# Altium schematic symbol library Schlib1.SchLib: 30 symbols
Pins are listed as number, name and electrical type; pins without a type are passive.

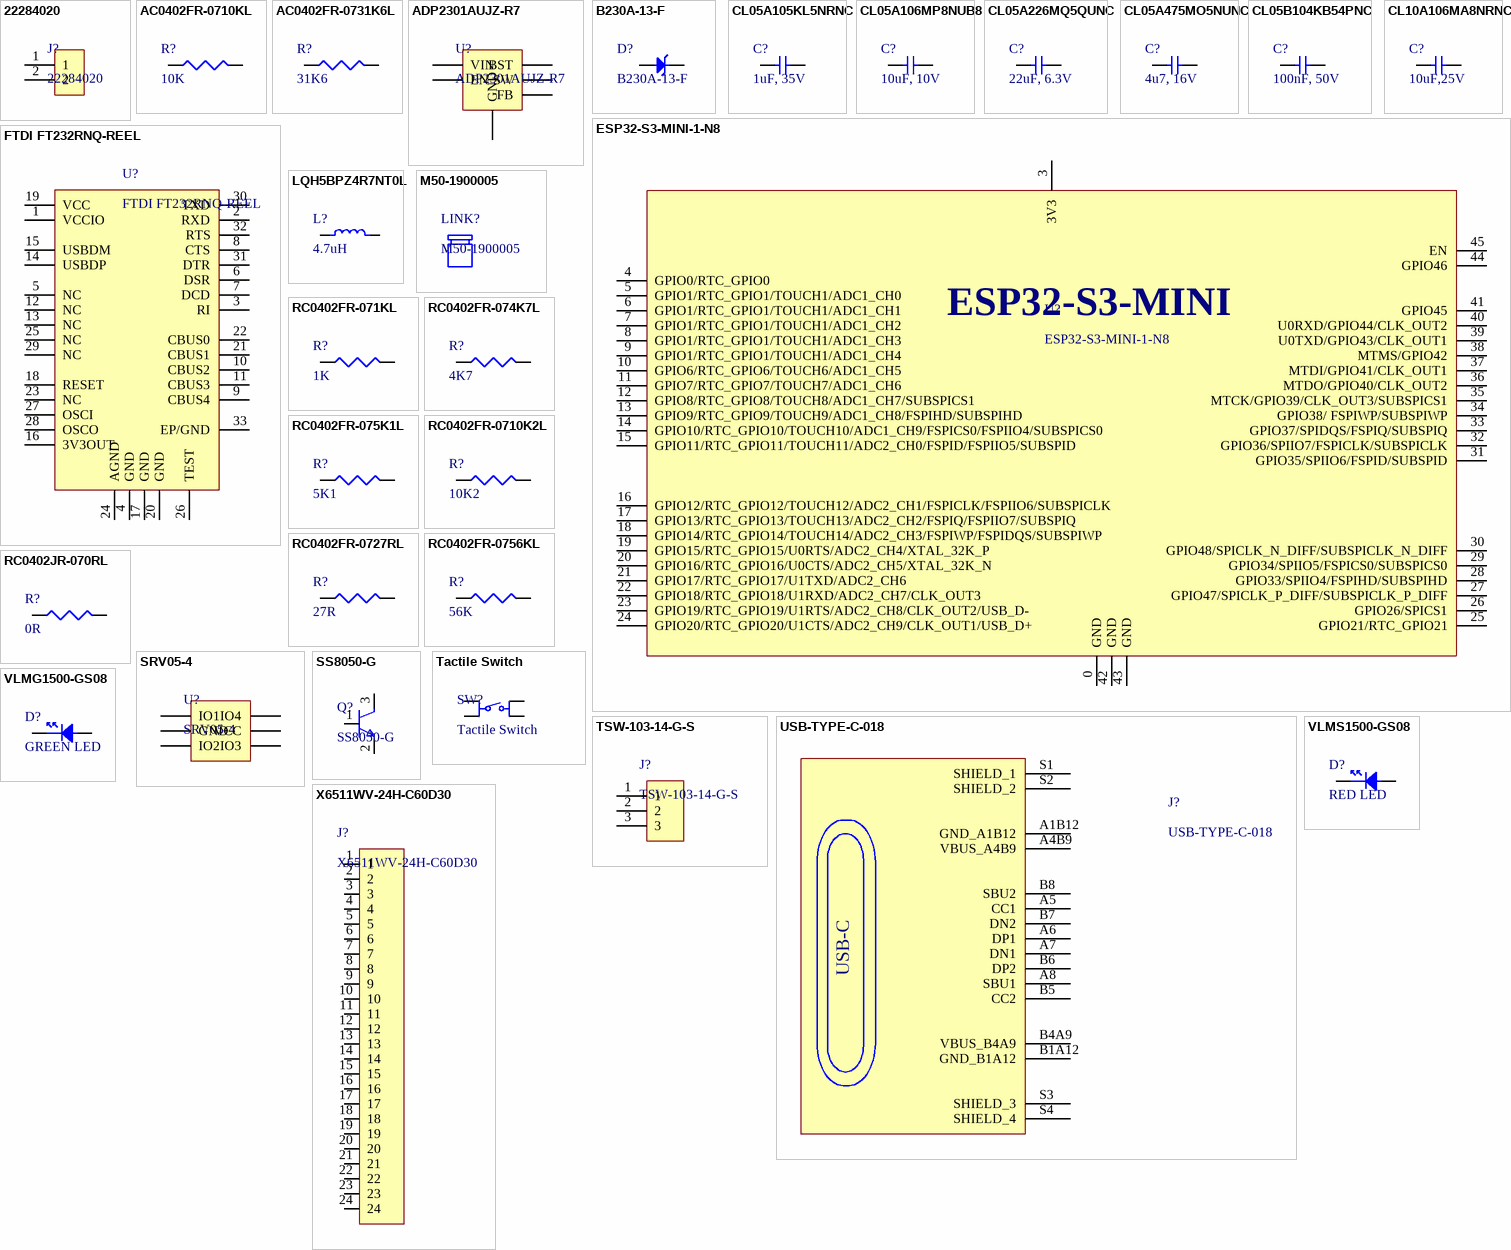
[diagram p0: symbols 22284020 to X6511WV-24H-C60D30]

## 22284020
designator J?
Direct Insert Policy 2P 2.54mm Single Row Black Brass 1x2P Plugin,P=2.54mm Pin Headers ROHS; Manufacture Name: MOLEX; Manufacture Part Number: 22284020; Supplier: LCSC; Supplier Part Number: C234182
footprint HDR_1x2
pins: 1, 2

## AC0402FR-0710KL
designator R?, comment 10K
62.5mW Thick Film Resistors 50V ±100ppm/℃ ±1% 10kΩ 0402 Chip Resistor - Surface Mount ROHS; Manufacturer: Yageo; Manufacturer Part Number: AC0402FR-0710KL; Supplier: LCSC; Supplier Part Number: C144807
footprint AC0402 (Resistor)
pins: 1, 2

## AC0402FR-0731K6L
designator R?, comment 31K6
62.5mW Thick Film Resistors 50V ±100ppm/℃ ±1% 31.6kΩ 0402 Chip Resistor - Surface Mount ROHS; Manufacturer: YAGEO; Manufacturer Part Number: AC0402FR-0731K6L; Supplier: LCSC; Supplier Part Number: C226989
footprint AC0402 (Resistor)
pins: 1, 2

## ADP2301AUJZ-R7
designator U?
Step-down type Adjustable 800mV~17V 1.2A 3V~20V TSOT-6 DC-DC Converters ROHS; Manufacturer: Analog Devices; Manufacturer Part Number: ADP2301AUJZ-R7; Supplier: LCSC; Supplier Part Number: C143872
footprint BUCK
pins: 1 BST, 2 GND, 3 FB, 4 EN, 5 VIN, 6 SW

## B230A-13-F
designator D?
30V 500mV@2A 2A SMA(DO-214AC) Schottky Diodes ROHS; Manufacturer: Diodes Incorporated; Manufacturer Part Number: B230A-13-F; Supplier: LCSC; Supplier Part Number: C12889
footprint Schottky Diode
pins: A, K

## CL05A105KL5NRNC
designator C?, comment 1uF, 35V
35V 1uF X5R ±10% 0402 Multilayer Ceramic Capacitors MLCC - SMD/SMT ROHS; Manufacturer: Samsung; Manufacturer Part Number: CL05A105KL5NRNC; Supplier: LCSC; Supplier Part Number: C307413
footprint Capacitor
pins: 1, 2

## CL05A106MP8NUB8
designator C?, comment 10uF, 10V
10V 10uF X5R ±20% 0402 Multilayer Ceramic Capacitors MLCC - SMD/SMT ROHS; Manufacturer: Samsung; Manufacturer Part Number: CL05A106MP8NUB8; Supplier: LCSC; Supplier Name: C307415
footprint Capacitor
pins: 1, 2

## CL05A226MQ5QUNC
designator C?, comment 22uF, 6.3V
6.3V 22uF X5R ±20% 0402 Multilayer Ceramic Capacitors MLCC - SMD/SMT ROHS; Manufacturer: Samsung Electro-Mechanics; Manufacturer Part Number: CL05A226MQ5QUNC; Supplier: LCSC; Supplier Name: C105226
footprint Capacitor
pins: 1, 2

## CL05A475MO5NUNC
designator C?, comment 4u7, 16V
16V 4.7uF X5R ±20% 0402 Multilayer Ceramic Capacitors MLCC - SMD/SMT ROHS; Manufacturer: Samsung Electro-Mechanics; Manufacturer Part Number: CL05A475MO5NUNC; Supplier: LCSC; Supplier Name: C318563
footprint Capacitor
pins: 1, 2

## CL05B104KB54PNC
designator C?, comment 100nF, 50V
50V 100nF X7R ±10% 0402 Multilayer Ceramic Capacitors MLCC - SMD/SMT ROHS; Manufacturer: Samsung; Manufacturer Part Number: CL05B104KB54PNC; Supplier: LCSC; Supplier Part Number: C307331
footprint Capacitor
pins: 1, 2

## CL10A106MA8NRNC
designator C?, comment 10uF,25V
25V 10uF X5R ±20% 0603 Multilayer Ceramic Capacitors MLCC - SMD/SMT ROHS; Manufacturer: Samsung Electro-Mechanics; Manufacturer Part Number: CL10A106MA8NRNC; Supplier: LCSC; Supplier Part Number: C96446
footprint CL10A106MA8NRNC
pins: 1, 2

## ESP32-S3-MINI-1-N8
designator U?
SMD module, ESP32-S3FN8, 8 MB SPI flash, PCB antenna; Manufacturer: Espressif Systems; Manufacturer Part Number: ESP32-S3-MINI-1-N8; Supplier: LCSC; Supplier Part Number: C2913206
footprint ESP32-S3-MINI-1-N8
pins: 0 GND, 3 3V3, 4 GPIO0/RTC_GPIO0, 5 GPIO1/RTC_GPIO1/TOUCH1/ADC1_CH0, 6 GPIO1/RTC_GPIO1/TOUCH1/ADC1_CH1, 7 GPIO1/RTC_GPIO1/TOUCH1/ADC1_CH2, 8 GPIO1/RTC_GPIO1/TOUCH1/ADC1_CH3, 9 GPIO1/RTC_GPIO1/TOUCH1/ADC1_CH4, 10 GPIO6/RTC_GPIO6/TOUCH6/ADC1_CH5, 11 GPIO7/RTC_GPIO7/TOUCH7/ADC1_CH6, 12 GPIO8/RTC_GPIO8/TOUCH8/ADC1_CH7/SUBSPICS1, 13 GPIO9/RTC_GPIO9/TOUCH9/ADC1_CH8/FSPIHD/SUBSPIHD, 14 GPIO10/RTC_GPIO10/TOUCH10/ADC1_CH9/FSPICS0/FSPIIO4/SUBSPICS0, 15 GPIO11/RTC_GPIO11/TOUCH11/ADC2_CH0/FSPID/FSPIIO5/SUBSPID, 16 GPIO12/RTC_GPIO12/TOUCH12/ADC2_CH1/FSPICLK/FSPIIO6/SUBSPICLK, 17 GPIO13/RTC_GPIO13/TOUCH13/ADC2_CH2/FSPIQ/FSPIIO7/SUBSPIQ, 18 GPIO14/RTC_GPIO14/TOUCH14/ADC2_CH3/FSPIWP/FSPIDQS/SUBSPIWP, 19 GPIO15/RTC_GPIO15/U0RTS/ADC2_CH4/XTAL_32K_P, 20 GPIO16/RTC_GPIO16/U0CTS/ADC2_CH5/XTAL_32K_N, 21 GPIO17/RTC_GPIO17/U1TXD/ADC2_CH6, 22 GPIO18/RTC_GPIO18/U1RXD/ADC2_CH7/CLK_OUT3, 23 GPIO19/RTC_GPIO19/U1RTS/ADC2_CH8/CLK_OUT2/USB_D-, 24 GPIO20/RTC_GPIO20/U1CTS/ADC2_CH9/CLK_OUT1/USB_D+, 25 GPIO21/RTC_GPIO21, 26 GPIO26/SPICS1, 27 GPIO47/SPICLK_P_DIFF/SUBSPICLK_P_DIFF, 28 GPIO33/SPIIO4/FSPIHD/SUBSPIHD, 29 GPIO34/SPIIO5/FSPICS0/SUBSPICS0, 30 GPIO48/SPICLK_N_DIFF/SUBSPICLK_N_DIFF, 31 GPIO35/SPIIO6/FSPID/SUBSPID, 32 GPIO36/SPIIO7/FSPICLK/SUBSPICLK, 33 GPIO37/SPIDQS/FSPIQ/SUBSPIQ, 34 GPIO38/ FSPIWP/SUBSPIWP, 35 MTCK/GPIO39/CLK_OUT3/SUBSPICS1, 36 MTDO/GPIO40/CLK_OUT2, 37 MTDI/GPIO41/CLK_OUT1, 38 MTMS/GPIO42, 39 U0TXD/GPIO43/CLK_OUT1, 40 U0RXD/GPIO44/CLK_OUT2, 41 GPIO45, 42 GND, 43 GND, 44 GPIO46, 45 EN
text: ESP32-S3-MINI

## FTDI FT232RNQ-REEL
designator U?
USB to UART QFN-32(5x5) USB Converters ROHS; Manufacturer: FTDI; Manufacturer Part Number: FT232RNQ-REEL; Supplier: LCSC; Supplier Name: C5441431
footprint FTDI FT232RNQ-REEL
pins: 1 VCCIO , 2 RXD, 3 RI, 4 GND, 5 NC, 6 DSR, 7 DCD, 8 CTS, 9 CBUS4, 10 CBUS2, 11 CBUS3, 12 NC, 13 NC, 14 USBDP, 15 USBDM, 16 3V3OUT, 17 GND, 18 RESET, 19 VCC, 20 GND, 21 CBUS1, 22 CBUS0, 23 NC, 24 AGND, 25 NC, 26 TEST, 27 OSCI, 28 OSCO, 29 NC, 30 TXD, 31 DTR, 32 RTS, 33 EP/GND

## LQH5BPZ4R7NT0L
designator L?, comment 4.7uH
2A 4.7uH ±30% 3A SMD,5x5mm Inductors (SMD) ROHS; Manufacturer: Murata Electronics; Manufacturer Part Number: LQH5BPZ4R7NT0L; Supplier: LCSC; Supplier Name: C703747
footprint Inductor (Inductor 0402)
pins: 1, 2

## M50-1900005
designator LINK?  (mechanical)
1.27mm (0.05") Pitch Closed Top Jumper Socket, black, gold; Manufacturer: Harwin; Manufacturer Part Number: M50-1900005; Supplier: LCSC; Supplier Part Number: C6293276

## RC0402FR-071KL
designator R?, comment 1K
62.5mW Thick Film Resistors 50V ±100ppm/℃ ±1% 1kΩ 0402 Chip Resistor - Surface Mount ROHS; Manufacturer: YAGEO; Manufacturer Part Number: RC0402FR-071KL; Supplier: LCSC; Supplier Part Number: C106235
footprint RC0402 (Resistor)
pins: 1, 2

## RC0402FR-074K7L
designator R?, comment 4K7
62.5mW Thick Film Resistors 50V ±100ppm/℃ ±1% 4.7kΩ 0402 Chip Resistor - Surface Mount ROHS; Manufacturer: YAGEO; Manufacturer Part Number: RC0402FR-074K7L; Supplier: LCSC; Supplier Name: C105871
footprint RC0402 (Resistor)
pins: 1, 2

## RC0402FR-075K1L
designator R?, comment 5K1
62.5mW Thick Film Resistors 50V ±100ppm/℃ ±1% 5.1kΩ 0402 Chip Resistor - Surface Mount ROHS; Manufacturer: Yageo; Manufacturer Part Number: RC0402FR-075K1L; Supplier: LCSC; Supplier Part Number: C105872
footprint RC0402 (Resistor)
pins: 1, 2

## RC0402FR-0710K2L
designator R?, comment 10K2
62.5mW Thick Film Resistors 50V ±100ppm/℃ ±1% 10.2kΩ 0402 Chip Resistor - Surface Mount ROHS; Manufacturer: YAGEO; Manufacturer Part Number: RC0402FR-0710K2L; Supplier: LCSC; Supplier Part Number: C138069
footprint RC0402 (Resistor)
pins: 1, 2

## RC0402FR-0727RL
designator R?, comment 27R
62.5mW Thick Film Resistors 50V ±100ppm/℃ ±1% 27Ω 0402 Chip Resistor - Surface Mount ROHS; Manufacturer: Yageo; Manufacturer Part Number: RC0402FR-0727RL; Supplier: LCSC; Supplier Part Number: C138021
footprint RC0402 (Resistor)
pins: 1, 2

## RC0402FR-0756KL
designator R?, comment 56K
62.5mW Thick Film Resistors 50V ±100ppm/℃ ±1% 56kΩ 0402 Chip Resistor - Surface Mount ROHS; Manufacturer: YAGEO; Manufacturer Part Number: RC0402FR-0756KL; Supplier: LCSC; Supplier Part Number: C114756
footprint RC0402 (Resistor)
pins: 1, 2

## RC0402JR-070RL
designator R?, comment 0R
62.5mW Thick Film Resistors 50V ±5% 0Ω 0402 Chip Resistor - Surface Mount ROHS; Manufacturer: YAGEO; Manufacturer Part Number: RC0402JR-070RL; Supplier: LCSC; Supplier Part Number: C60485
footprint RC0402 (Resistor)
pins: 1, 2

## SRV05-4
designator U?
15V 60W 9V 5V SOT-23-6 ESD and Surge Protection (TVS/ESD) ROHS; Manufacture Name: MSKSEMI; Manufacture Part Number: SRV05-4; Supplier: LCSC; Supplier Part Number: C2836319
footprint SRV05-4
pins: 1 IO1, 2 GND, 3 IO2, 4 IO3, 5 VCC, 6 IO4

## SS8050-G
designator Q?
25V 300mW 120@100mA,1V 1.5A NPN SOT-23 Bipolar (BJT) ROHS; Manufacture Name: Jiangsu Changjing Electronics Technology Co., Ltd.; Manufacture Part Number: SS8050-G(RANGE:120-200); Supplier: LCSC; Supplier Part Number: C164886
footprint SS8050-G
pins: 1, 2, 3

## Tactile Switch
designator SW?
5.2mm 1.5mm Round Button 20mA Standing paste 5.2mm SPST 160gf 15V SMD,5.2x5.2mm Tactile Switches ROHS; Manufacture Name: C&K; Manufacture Part Number: PTS525SM15SMTR2LFS; Supplier: LCSC; Supplier Part Number: C221856
footprint Tactile Switch
pins: 1, 2, 3, 4

## TSW-103-14-G-S
designator J?
Gold Direct Insert 3P -55℃~+125℃ 2.54mm Black Single Row Phosphor Bronze Plugin,P=2.54mm Pin Headers ROHS; Manufacturer: Samtec; Manufacturer Part Number: TSW-103-14-G-S; Supplier: LCSC; Supplier Part Number: C7365843
footprint TSW-103-14-G-S
pins: 1, 2, 3

## USB-TYPE-C-018
designator J?
3A 1 Horizontal attachment 16P Female -25℃~+85℃ Type-C SMD USB Connectors ROHS; Manufacture Name: DEALON; Manufacture Part Number: USB-TYPE-C-018; Supplier Part Number: C2927038; Supplier Name: LCSC
footprint USB-TYPE-C-018
pins: A1B12 GND_A1B12, A4B9 VBUS_A4B9, A5 CC1, A6 DP1, A7 DN1, A8 SBU1, B1A12 GND_B1A12, B4A9 VBUS_B4A9, B5 CC2, B6 DP2, B7 DN2, B8 SBU2, S1 SHIELD_1, S2 SHIELD_2, S3 SHIELD_3, S4 SHIELD_4
text: USB-C

## VLMG1500-GS08
designator D?, comment GREEN LED
20mA 35mcd 571nm Yellow Green 130° 2V 0402 LED Indication - Discrete ROHS; Manufacture Name: Vishay Intertech; Manufacture Part Number: VLMG1500-GS08; Supplier: LCSC; Supplier Part Number: C511404
footprint GREEN LED
pins: 1, 2

## VLMS1500-GS08
designator D?, comment RED LED
20mA 54mcd -30℃~+85℃ 631nm Red 130° 75mW 2V 0402 LED Indication - Discrete ROHS; Manufacture Name: Vishay Intertech; Manufacture Part Number: VLMS1500-GS08; Supplier: LCSC; Supplier Part Number: C511370
footprint RED LED
pins: 1, 2

## X6511WV-24H-C60D30
designator J?
Gold 250V 3A Policy 2.5mm 24P 260℃ -40℃~+105℃ 2.54mm Single Row Black Brass 2.54mm 1x24P Plugin,P=2.54mm Pin Headers ROHS; Manufacture Name: XKB Connection; Manufacture Part Number: X6511WV-24H-C60D30; Supplier: LCSC; Supplier Part Number: C725956
footprint HDR_1x24
pins: 1, 2, 3, 4, 5, 6, 7, 8, 9, 10, 11, 12, 13, 14, 15, 16, 17, 18, 19, 20, 21, 22, 23, 24